# EAGLE library part CD74HC238PWR (library scono)
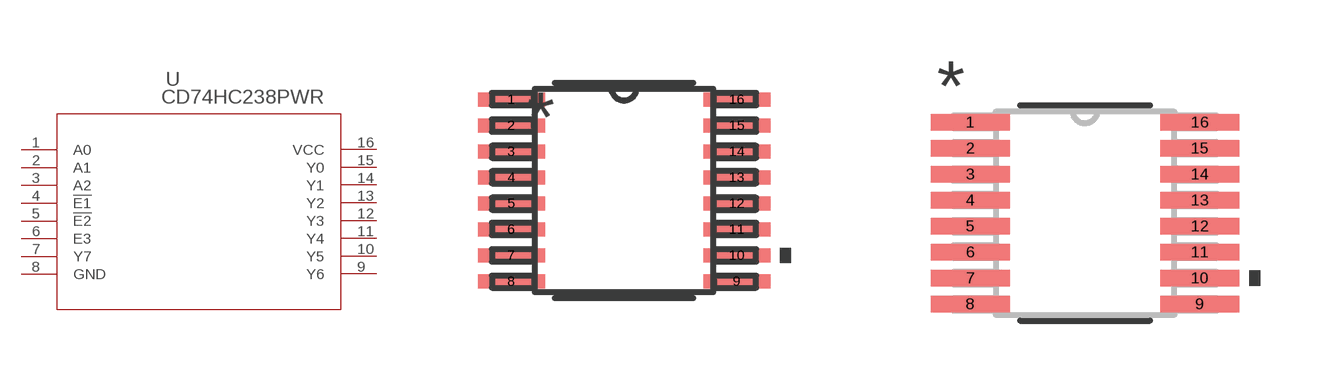
[diagram p56: symbol with the pads of PW16; footprints PW16, PW16-M]

Designator prefix U

## CD74HC238PWR (MANUFACTURER_PART_NUMBER: CD74HC238PWR; VENDOR: Vendor)  [PW16]
1  A0  in
2  A1  in
3  A2  in
4  !E1  in
5  !E2  in
6  E3  in
7  Y7  out
8  GND  pwr
9  Y6  out
10  Y5  out
11  Y4  out
12  Y3  out
13  Y2  out
14  Y1  out
15  Y0  out
16  VCC  pwr

## CD74HC238PWRPW16-M (MANUFACTURER_PART_NUMBER: CD74HC238PWR; VENDOR: Vendor)  [PW16-M]
Pads as for PW16

## CD74HC238PWRPW16-L (MANUFACTURER_PART_NUMBER: CD74HC238PWR; VENDOR: Vendor)  [PW16-L]
Pads as for PW16

## Footprint PW16 (pad centres in mm)
smd 1.676 x 0.356: 1 -2.819,2.275; 2 -2.819,1.625; 3 -2.819,0.975; 4 -2.819,0.325; 5 -2.819,-0.325; 6 -2.819,-0.975; 7 -2.819,-1.625; 8 -2.819,-2.275; 9 2.819,-2.275; 10 2.819,-1.625; 11 2.819,-0.975; 12 2.819,-0.325; 13 2.819,0.325; 14 2.819,0.975; 15 2.819,1.625; 16 2.819,2.275

## Footprint PW16-M (pad centres in mm)
smd 1.981 x 0.406: 1 -2.87,2.275; 2 -2.87,1.625; 3 -2.87,0.975; 4 -2.87,0.325; 5 -2.87,-0.325; 6 -2.87,-0.975; 7 -2.87,-1.625; 8 -2.87,-2.275; 9 2.87,-2.275; 10 2.87,-1.625; 11 2.87,-0.975; 12 2.87,-0.325; 13 2.87,0.325; 14 2.87,0.975; 15 2.87,1.625; 16 2.87,2.275

## Footprint PW16-L (pad centres in mm)
smd 1.372 x 0.305: 1 -2.769,2.275; 2 -2.769,1.625; 3 -2.769,0.975; 4 -2.769,0.325; 5 -2.769,-0.325; 6 -2.769,-0.975; 7 -2.769,-1.625; 8 -2.769,-2.275; 9 2.769,-2.275; 10 2.769,-1.625; 11 2.769,-0.975; 12 2.769,-0.325; 13 2.769,0.325; 14 2.769,0.975; 15 2.769,1.625; 16 2.769,2.275